# EAGLE library part W25Q32FV (library misc)
3V 32Mbit serial flash memeory
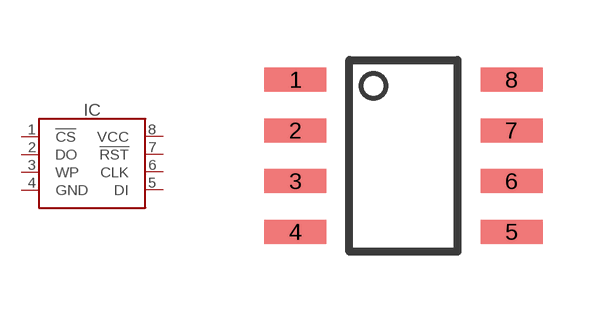
[diagram p26: symbol with the pads of SOIC8; footprint SOIC8]

Designator prefix IC

## W25Q32FV-SOIC (MANF: WINBOND; MANF#: W25Q32FVSSIG)  [SOIC8]
1  !CS
2  DO
3  WP
4  GND
5  DI
6  CLK
7  !RST
8  VCC

## Footprint SOIC8 (pad centres in mm)
https://www.ti.com/lit/ds/snvsaq5a/snvsaq5a.pdf?ts=1602424164509
smd 1.55 x 0.6: 1 -2.7,1.905; 2 -2.7,0.635; 3 -2.7,-0.635; 4 -2.7,-1.905; 5 2.7,-1.905; 6 2.7,-0.635; 7 2.7,0.635; 8 2.7,1.905